# Altium schematic symbol library TS2306A-240GF-MSM-9_C388290.SchLib: 1 symbol
Pins are listed as number, name and electrical type; pins without a type are passive.

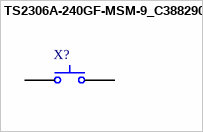
[diagram p0: symbol TS2306A-240GF-MSM-9_C388290]

## TS2306A-240GF-MSM-9_C388290
designator X?
Tactile Switches SPST 3.00mm x 2.00mm 0.60mm 10mA @ 5VDC SMD RoHS; Manufacturer_Name: Shou Han; Geometry.Height: 1mm; Manufacturer_Part_Number: TS2306A-240GF-MSM-9_C388290; Mouser Part Number: *; Mouser Price/Stock: *; Arrow Part Number: *; Arrow Price/Stock: *; Mouser Testing Part Number: *; Mouser Testing Price/Stock: *; Datasheet Link: https://datasheet.lcsc.com/szlcsc/1904241742_SHOU-HAN-TS2306A-240gf-MSM-9_C388290.pdf
footprint TS2306A240GFMSM9_C388290
pins: 1 NO, 2 COM